# EAGLE library part RASPBERRY-PI_REV1 (library fabhack)
Raspberry Pi Board <http://www.raspberrypi.org/> Jacques Lagnel V1.0 (beta) 2012 Mateusz Bawaj V1.1 (beta) 2012 Board dimension: Forum 3D model <http://www.raspberrypi.org/forum/general-discussion/mechanical-profile-3d-models?value=3d%20model&type=1&include=1&search=1&ret=all> The GPIO Connector (P1): http://elinux.org/RPi_Low-level_peripherals
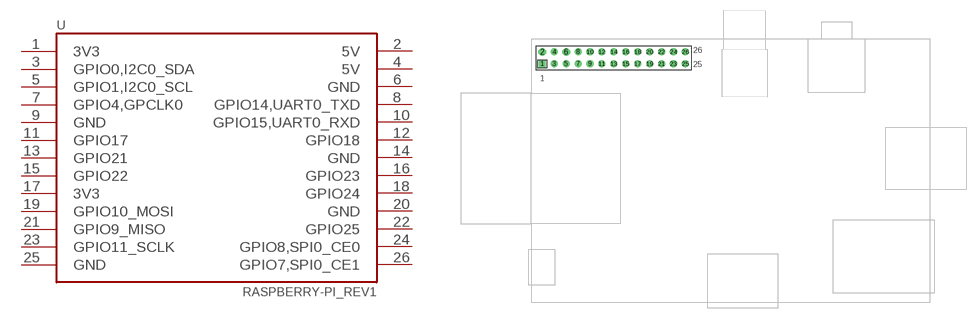
[diagram p3: symbol with the pads of RASPBERRY-PI_REV1; footprint RASPBERRY-PI_REV1]

Designator prefix -

## RASPBERRY-PI_REV1  [RASPBERRY-PI_REV1]
1  3V3
2  5V
3  GPIO0,I2C0_SDA
4  5V
5  GPIO1,I2C0_SCL
6  GND
7  GPIO4,GPCLK0
8  GPIO14,UART0_TXD
9  GND
10  GPIO15,UART0_RXD
11  GPIO17
12  GPIO18
13  GPIO21
14  GND
15  GPIO22
16  GPIO23
17  3V3
18  GPIO24
19  GPIO10_MOSI
20  GND
21  GPIO9_MISO
22  GPIO25
23  GPIO11_SCLK
24  GPIO8,SPI0_CE0
25  GND
26  GPIO7,SPI0_CE1

## Footprint RASPBERRY-PI_REV1 (pad centres in mm)
drill 1 square: 1 -41.91,21.59
drill 1 pad 1.676: 2 -41.91,24.13; 6 -36.83,24.13
drill 1: 3 -39.37,21.59; 4 -39.37,24.13; 5 -36.83,21.59; 7 -34.29,21.59; 8 -34.29,24.13; 9 -31.75,21.59; 10 -31.75,24.13; 11 -29.21,21.59; 12 -29.21,24.13; 13 -26.67,21.59; 14 -26.67,24.13; 15 -24.13,21.59; 16 -24.13,24.13; 17 -21.59,21.59; 18 -21.59,24.13; 19 -19.05,21.59; 20 -19.05,24.13; 21 -16.51,21.59; 22 -16.51,24.13; 23 -13.97,21.59; 24 -13.97,24.13; 25 -11.43,21.59; 26 -11.43,24.13